# Altium footprint library Deck_PcbLibV3.PcbLib: 12 footprints
Each footprint in its own frame and in the unit in brackets; x right, y up, seen from the top. Pads: shape width x height; smd on the part's side, far side on the other; paste and mask are expansions set on the pad; w line width, h text height; cw(c..) or ccw(c..) is an arc to the next point about the centre after c.
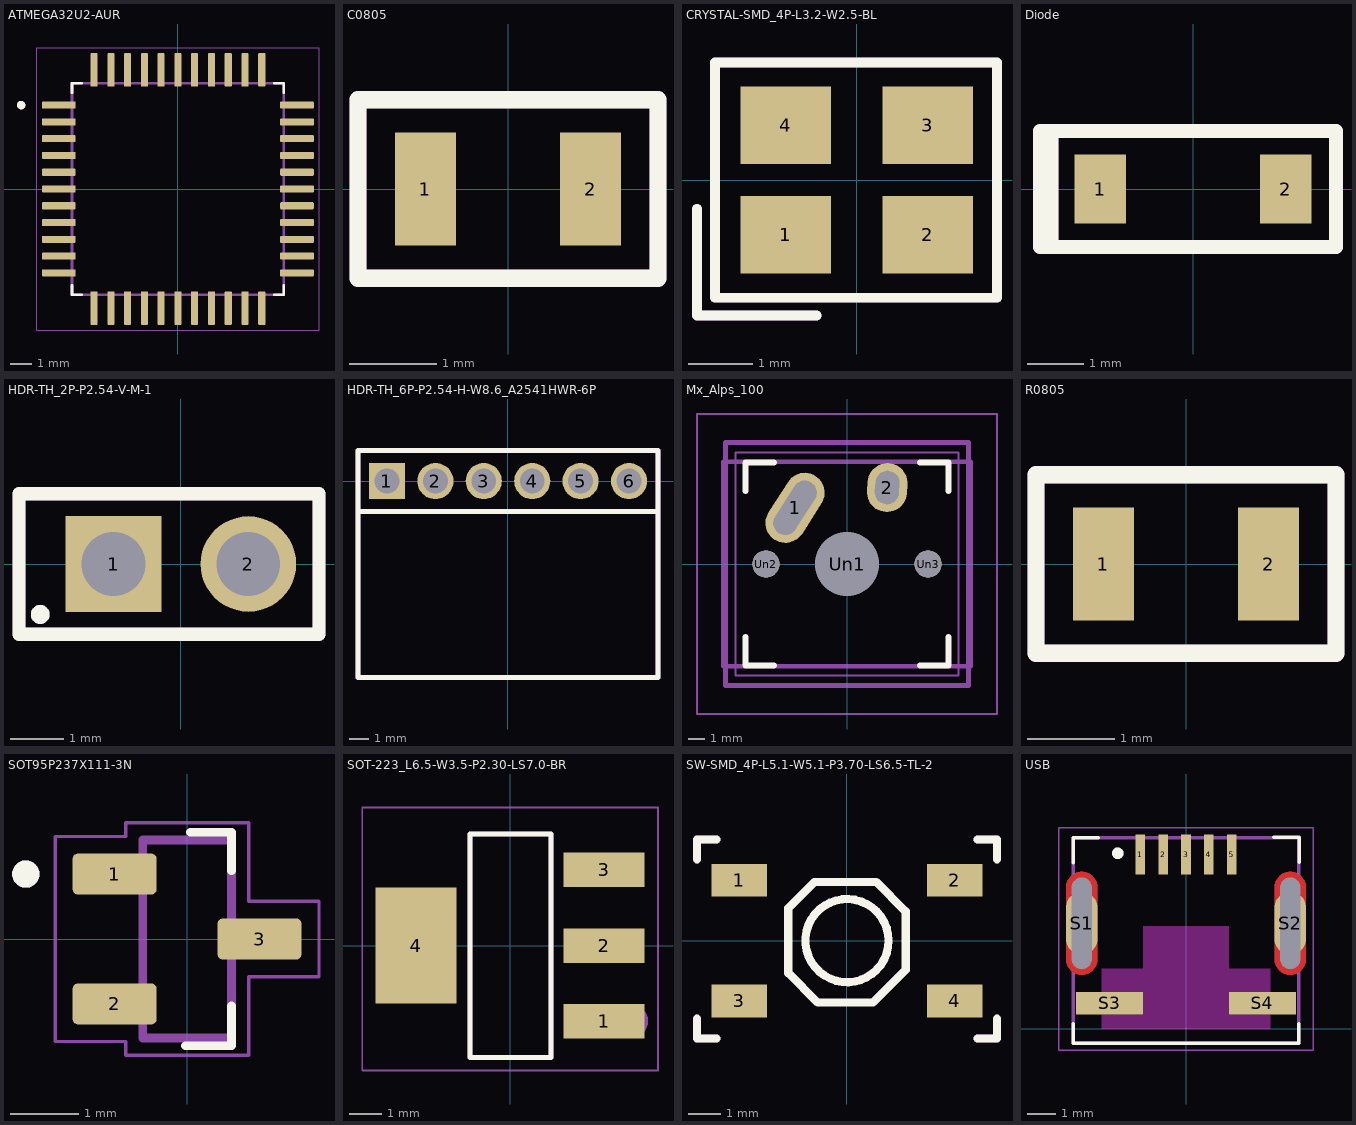
[diagram p0: the footprints below, top view; thin cyan lines are the x and y axes]

## ATMEGA32U2-AUR [mm]
pads (44):
  rrect25% 1.6x0.34 smd: 1(-5.68,4) 2(-5.68,3.2) 3(-5.68,2.4) 4(-5.68,1.6) 5(-5.68,0.8) 6(-5.68,0) 7(-5.68,-0.8) 8(-5.68,-1.6) 9(-5.68,-2.4) 10(-5.68,-3.2) 11(-5.68,-4) 23(5.68,-4) 24(5.68,-3.2) 25(5.68,-2.4) 26(5.68,-1.6) 27(5.68,-0.8) 28(5.68,0) 29(5.68,0.8) 30(5.68,1.6) 31(5.68,2.4) 32(5.68,3.2) 33(5.68,4)
  rrect25% 0.34x1.6 smd: 12(-4,-5.68) 13(-3.2,-5.68) 14(-2.4,-5.68) 15(-1.6,-5.68) 16(-0.8,-5.68) 17(0,-5.68) 18(0.8,-5.68) 19(1.6,-5.68) 20(2.4,-5.68) 21(3.2,-5.68) 22(4,-5.68) 34(4,5.68) 35(3.2,5.68) 36(2.4,5.68) 37(1.6,5.68) 38(0.8,5.68) 39(0,5.68) 40(-0.8,5.68) 41(-1.6,5.68) 42(-2.4,5.68) 43(-3.2,5.68) 44(-4,5.68)
Top Overlay:
  circle w0.2: c-7.48,4 r0.1
  lines w0.127: -5.05,-4.595 -5.05,-5.05 -4.595,-5.05 ; -5.05,4.595 -5.05,5.05 -4.595,5.05 ; 4.595,-5.05 5.05,-5.05 5.05,-4.595 ; 4.595,5.05 5.05,5.05 5.05,4.595
Assembly Notes:
  circle w0.2: c-7.48,4 r0.1
  lines w0.05: -6.73,-6.73 6.73,-6.73 6.73,6.73 -6.73,6.73 -6.73,-6.73
  lines w0.127: -5.05,-5.05 5.05,-5.05 5.05,5.05 -5.05,5.05 -5.05,-5.05
  text "'.Designator'" at 0.1,0.333 h0.7
3D body "ATMEGA32U4-AUR--3DModel-STEP-56544.STEP": height 1.21, standoff 0.01, extent -6,-6 6,6

## C0805 [mm]
pads (2):
  rect 0.7x1.3 smd: 1(-0.95,0) 2(0.95,0)
Top Overlay:
  lines w0.2: -1.725,-1.025 -1.725,1.025 1.725,1.025 1.725,-1.025 -1.725,-1.025
Assembly Notes:
  lines w0.2: -1.725,-1.025 -1.725,1.025 1.725,1.025 1.725,-1.025 -1.725,-1.025
  text "'.Designator'" at -1.297,-0.429 h0.7
3D body "YAG_CC0805_YAG.step": height 1.45, standoff 0, extent -1.105,-0.724 1.105,0.724

## CRYSTAL-SMD_4P-L3.2-W2.5-BL [mm]
pads (4):
  rect 1.4x1.2 smd: 1(-1.1,-0.85) 2(1.1,-0.85) 3(1.1,0.85) 4(-1.1,0.85)
Top Overlay:
  lines w0.152: -2.479,-0.443 -2.479,-0.857 -2.479,-1.686 -2.479,-2.1 -2.014,-2.1 -1.086,-2.1 -0.621,-2.1 ; -2.2,-1.825 2.175,-1.825 2.175,1.825 -2.2,1.825 -2.2,-1.825
Assembly Notes:
  circle w0.36: c-1.143,-0.889 r0.18
  lines w0.152: -2.479,-0.443 -2.479,-0.857 -2.479,-1.686 -2.479,-2.1 -2.014,-2.1 -1.086,-2.1 -0.621,-2.1 ; -2.2,-1.825 -2.2,1.825 2.175,1.825 2.175,-1.825 -2.2,-1.825
  text "'.Designator'" at 0.1,0.333 h0.7

## Diode [mil]
pads (2):
  rect 36x48 smd: 1(-64.5,0) 2(64.5,0)
Top Overlay:
  rectangle: -109.25,-39.37 -93.5,39.37
  lines w10: -106.3,-40.35 -106.3,40.35 99.41,40.35 99.41,-40.35 -106.3,-40.35
Assembly Notes:
  rectangle: -109.25,-39.37 -93.5,39.37
  lines w10: -106.3,-40.35 -106.3,40.35 99.41,40.35 99.41,-40.35 -106.3,-40.35
  text "'.Designator'" at 3.94,13.12 h27.56
3D body "SOD123_DIO.step": height 32.09, standoff 0, extent -75.78,-26.57 75.8,26.58

## HDR-TH_2P-P2.54-V-M-1 [mm]
pads (2):
  rect 1.8x1.8 hole 1.2: 1(-1.27,0)
  round 1.8 hole 1.2: 2(1.27,0)
Top Overlay:
  circle w0.254: c-2.65,-0.95 r0.05
  lines w0.254: -3.05,-1.325 2.6,-1.325 2.6,1.325 -3.05,1.325 -3.05,-1.325
Assembly Notes:
  circle w0.254: c-2.65,-0.95 r0.05
  lines w0.254: -3.05,-1.325 2.6,-1.325 2.6,1.325 -3.05,1.325 -3.05,-1.325
  text "'.Designator'" at 0.1,0.333 h0.7
3D body "2PIN.step": height 8, standoff -3, extent -2.54,-1.3 2.54,1.24

## HDR-TH_6P-P2.54-H-W8.6_A2541HWR-6P [mm]
pads (6):
  rect 1.9x1.9 hole 1.3: 1(-6.35,0)
  round 1.9 hole 1.3: 2(-3.81,0) 3(-1.27,0) 4(1.27,0) 5(3.81,0) 6(6.35,0)
Top Overlay:
  lines w0.254: -7.87,-1.597 -7.87,1.6 7.87,1.6 7.87,-1.597 ; -7.87,-10.3 -7.87,-1.6 7.87,-1.6 7.87,-10.3 -7.87,-10.3
Assembly Notes:
  lines w0.254: -7.87,-1.597 -7.87,1.6 7.87,1.6 7.87,-1.597 ; -7.87,-10.3 -7.87,-1.6 7.87,-1.6 7.87,-10.3 -7.87,-10.3
  text "'.Designator'" at 0.1,0.333 h0.7
3D body "H254_90deg_6pin.STEP": height 2.5, standoff -3.64, extent -7.595,-10.125 7.645,0.226

## Mx_Alps_100 [mm]
pads (5):
  rrect100% 2.5x4.75 hole 3.75 slot 1.5 at 147.5 deg rot 147.5: 1(-3.255,3.52)
  rrect100% 2.5x3.08 hole 2.08 slot 1.5 at 176.1 deg rot 176.1: 2(2.52,4.79)
  round 3.988 hole 3.988: Un1(0,0)
  round 1.702 hole 1.702: Un2(-5.08,0) Un3(5.08,0)
Top Overlay:
  lines w0.381: -6.35,-4.572 -6.35,-6.35 -4.572,-6.35 ; -6.35,4.572 -6.35,6.35 -4.572,6.35 ; 4.572,-6.35 6.35,-6.35 6.35,-4.572 ; 4.572,6.35 6.35,6.35 6.35,4.572
Bottom Overlay:
  lines w0.381: -6.35,-4.572 -6.35,-6.35 -4.572,-6.35 ; -6.35,4.572 -6.35,6.35 -4.572,6.35 ; 4.572,-6.35 6.35,-6.35 6.35,-4.572 ; 4.572,6.35 6.35,6.35 6.35,4.572
Mechanical 2:
  lines w0.152: -9.398,-9.398 9.398,-9.398 9.398,9.398 -9.398,9.398 -9.398,-9.398
  lines w0.3: -7.75,-6.4 -7.75,6.4 7.75,6.4 7.75,-6.4 -7.75,-6.4 ; -7.62,-7.62 7.62,-7.62 7.62,7.62 -7.62,7.62 -7.62,-7.62
Assembly Notes:
  lines w0.152: -6.985,-6.985 6.985,-6.985 6.985,6.985 -6.985,6.985 -6.985,-6.985

## R0805 [mm]
pads (2):
  rect 0.7x1.3 smd: 1(-0.95,0) 2(0.95,0)
Top Overlay:
  lines w0.2: -1.725,-1.025 1.725,-1.025 1.725,1.025 -1.725,1.025 -1.725,-1.025
Assembly Notes:
  lines w0.2: -1.725,-1.025 1.725,-1.025 1.725,1.025 -1.725,1.025 -1.725,-1.025
  text "'.Designator'" at -1.297,-0.429 h0.7
3D body "Res0805-1.STEP": height 0.5, standoff 0, extent -1,-0.625 1,0.625

## SOT95P237X111-3N [mm]
pads (3):
  rrect25% 1.23x0.6 smd: 1(-1.06,0.95) 2(-1.06,-0.95) 3(1.06,0)
Top Overlay:
  circle w0.2: c-2.36,0.95 r0.1
  lines w0.127: -0.025,-1.564 0.65,-1.564 0.65,-0.975 ; 0.05,1.564 0.65,1.564 0.65,1
Assembly Notes:
  circle w0.2: c-2.36,0.95 r0.1
  lines w0.05: -1.93,-1.5 -0.9,-1.5 -0.9,-1.7 0.9,-1.7 0.9,-0.55 1.93,-0.55 1.93,0.55 0.9,0.55 0.9,1.7 -0.9,1.7 -0.9,1.5 -1.93,1.5 -1.93,-1.5
  lines w0.127: -0.65,-1.45 -0.65,1.45 0.65,1.45 0.65,-1.45 -0.65,-1.45
  text "'.Designator'" at 0.1,0.333 h0.7
3D body "step_temp.STEP": height 1.11, standoff 0, extent -1.2,-1.45 1.2,1.45

## SOT-223_L6.5-W3.5-P2.30-LS7.0-BR [mm]
pads (4):
  rect 2.465x1.05 smd: 1(2.857,-2.3) 2(2.857,0) 3(2.857,2.3)
  rect 2.465x3.54 smd: 4(-2.857,0)
Top Overlay:
  lines w0.152: -1.225,-3.401 1.25,-3.401 1.25,3.401 -1.225,3.401 -1.225,-3.401
Assembly Notes:
  circle w0.5: c3.7,-2.3 r0.25
  lines w0.05: -4.5,-3.8 -4.5,4.2 4.5,4.2 4.5,2.2 4.5,-1.8 4.5,-3.8 -4.5,-3.8
  lines w0.152: -1.225,-3.401 1.25,-3.401 1.25,3.401 -1.225,3.401 -1.225,-3.401
  text "'.Designator'" at 0.1,0.333 h0.7
3D body "SOT223_AMS1117-50_ADS.step": height 1.81, standoff 0, extent -3.5,-3.353 3.5,3.353

## SW-SMD_4P-L5.1-W5.1-P3.70-LS6.5-TL-2 [mm]
pads (4):
  rect 1.7x1 smd: 1(-3.3,1.849) 2(3.3,1.85) 3(-3.3,-1.85) 4(3.3,-1.85)
Top Overlay:
  circle w0.254: c0,0 r1.275
  lines w0.254: -4.6,-2.4 -4.6,-3 -4,-3 ; -4.6,2.5 -4.6,3.1 -4,3.1 ; 4,-3 4.6,-3 4.6,-2.4 ; 4,3.1 4.6,3.1 4.6,2.5 ; -1.801,-0.998 -0.899,-1.9 0.8,-1.9 1.801,-0.899 1.801,0.899 0.899,1.801 -1.001,1.801 -1.801,1.001 -1.801,-0.998
Assembly Notes:
  lines w0.254: -4.6,-2.4 -4.6,-3 -4,-3 ; -4.6,2.5 -4.6,3.1 -4,3.1 ; 4,-3 4.6,-3 4.6,-2.4 ; 4,3.1 4.6,3.1 4.6,2.5
  text "'.Designator'" at 0.1,0.333 h0.7
3D body "Tact Switch SMD 4.5x4.5mm.stp": height 3.8, standoff 0, extent -3.75,-2.25 3.75,2.25

## USB [mm]
pads (9):
  rect 0.34x1.4 smd: 1(-1.6,6.1) 2(-0.8,6.1) 3(0,6.1) 4(0.8,6.1) 5(1.6,6.1)
  oval 1.1x2.2 hole 0.7 slot 3.2 at 90 deg: S1(-3.65,3.7) S2(3.65,3.7)
  rect 2.35x0.8 smd: S3(-2.675,0.9) S4(2.675,0.9)
Top Layer:
  region: -3.621,5.499 -3.593,5.497 -3.564,5.493 -3.536,5.488 -3.508,5.481 -3.48,5.473 -3.453,5.463 -3.426,5.452 -3.4,5.44 -3.375,5.426 -3.35,5.411 -3.327,5.395 -3.304,5.377 -3.282,5.359 -3.261,5.339 -3.241,5.318 -3.223,5.296 -3.205,5.273 -3.189,5.25 -3.174,5.225 -3.16,5.2 -3.148,5.174 -3.137,5.147 -3.127,5.12 -3.119,5.092 -3.112,5.064 -3.107,5.036 -3.103,5.007 -3.101,4.979 -3.1,4.95 -3.1,2.45 -3.101,2.421 -3.103,2.393 -3.107,2.364 -3.112,2.336 -3.119,2.308 -3.127,2.28 -3.137,2.253 -3.148,2.226 -3.16,2.2 -3.174,2.175 -3.189,2.15 -3.205,2.127 -3.223,2.104 -3.241,2.082 -3.261,2.061 -3.282,2.041 -3.304,2.023 -3.327,2.005 -3.35,1.989 -3.375,1.974 -3.4,1.96 -3.426,1.948 -3.453,1.937 -3.48,1.927 -3.508,1.919 -3.536,1.912 -3.564,1.907 -3.593,1.903 -3.621,1.901 -3.65,1.9 -3.679,1.901 -3.707,1.903 -3.736,1.907 -3.764,1.912 -3.792,1.919 -3.82,1.927 -3.847,1.937 -3.874,1.948 -3.9,1.96 -3.925,1.974 -3.95,1.989 -3.973,2.005 -3.996,2.023 -4.018,2.041 -4.039,2.061 -4.059,2.082 -4.077,2.104 -4.095,2.127 -4.111,2.15 -4.126,2.175 -4.14,2.2 -4.152,2.226 -4.163,2.253 -4.173,2.28 -4.181,2.308 -4.188,2.336 -4.193,2.364 -4.197,2.393 -4.199,2.421 -4.2,2.45 -4.2,4.95 -4.199,4.979 -4.197,5.007 -4.193,5.036 -4.188,5.064 -4.181,5.092 -4.173,5.12 -4.163,5.147 -4.152,5.174 -4.14,5.2 -4.126,5.225 -4.111,5.25 -4.095,5.273 -4.077,5.296 -4.059,5.318 -4.039,5.339 -4.018,5.359 -3.996,5.377 -3.973,5.395 -3.95,5.411 -3.925,5.426 -3.9,5.44 -3.874,5.452 -3.847,5.463 -3.82,5.473 -3.792,5.481 -3.764,5.488 -3.736,5.493 -3.707,5.497 -3.679,5.499 -3.65,5.5
  region: 3.679,5.499 3.707,5.497 3.736,5.493 3.764,5.488 3.792,5.481 3.82,5.473 3.847,5.463 3.874,5.452 3.9,5.44 3.925,5.426 3.95,5.411 3.973,5.395 3.996,5.377 4.018,5.359 4.039,5.339 4.059,5.318 4.077,5.296 4.095,5.273 4.111,5.25 4.126,5.225 4.14,5.2 4.152,5.174 4.163,5.147 4.173,5.12 4.181,5.092 4.188,5.064 4.193,5.036 4.197,5.007 4.199,4.979 4.2,4.95 4.2,2.45 4.199,2.421 4.197,2.393 4.193,2.364 4.188,2.336 4.181,2.308 4.173,2.28 4.163,2.253 4.152,2.226 4.14,2.2 4.126,2.175 4.111,2.15 4.095,2.127 4.077,2.104 4.059,2.082 4.039,2.061 4.018,2.041 3.996,2.023 3.973,2.005 3.95,1.989 3.925,1.974 3.9,1.96 3.874,1.948 3.847,1.937 3.82,1.927 3.792,1.919 3.764,1.912 3.736,1.907 3.707,1.903 3.679,1.901 3.65,1.9 3.621,1.901 3.593,1.903 3.564,1.907 3.536,1.912 3.508,1.919 3.48,1.927 3.453,1.937 3.426,1.948 3.4,1.96 3.375,1.974 3.35,1.989 3.327,2.005 3.304,2.023 3.282,2.041 3.261,2.061 3.241,2.082 3.223,2.104 3.205,2.127 3.189,2.15 3.174,2.175 3.16,2.2 3.148,2.226 3.137,2.253 3.127,2.28 3.119,2.308 3.112,2.336 3.107,2.364 3.103,2.393 3.101,2.421 3.1,2.45 3.1,4.95 3.101,4.979 3.103,5.007 3.107,5.036 3.112,5.064 3.119,5.092 3.127,5.12 3.137,5.147 3.148,5.174 3.16,5.2 3.174,5.225 3.189,5.25 3.205,5.273 3.223,5.296 3.241,5.318 3.261,5.339 3.282,5.359 3.304,5.377 3.327,5.395 3.35,5.411 3.375,5.426 3.4,5.44 3.426,5.452 3.453,5.463 3.48,5.473 3.508,5.481 3.536,5.488 3.564,5.493 3.593,5.497 3.621,5.499 3.65,5.5
Bottom Layer:
  region: 3.679,5.499 3.707,5.497 3.736,5.493 3.764,5.488 3.792,5.481 3.82,5.473 3.847,5.463 3.874,5.452 3.9,5.44 3.925,5.426 3.95,5.411 3.973,5.395 3.996,5.377 4.018,5.359 4.039,5.339 4.059,5.318 4.077,5.296 4.095,5.273 4.111,5.25 4.126,5.225 4.14,5.2 4.152,5.174 4.163,5.147 4.173,5.12 4.181,5.092 4.188,5.064 4.193,5.036 4.197,5.007 4.199,4.979 4.2,4.95 4.2,2.45 4.199,2.421 4.197,2.393 4.193,2.364 4.188,2.336 4.181,2.308 4.173,2.28 4.163,2.253 4.152,2.226 4.14,2.2 4.126,2.175 4.111,2.15 4.095,2.127 4.077,2.104 4.059,2.082 4.039,2.061 4.018,2.041 3.996,2.023 3.973,2.005 3.95,1.989 3.925,1.974 3.9,1.96 3.874,1.948 3.847,1.937 3.82,1.927 3.792,1.919 3.764,1.912 3.736,1.907 3.707,1.903 3.679,1.901 3.65,1.9 3.621,1.901 3.593,1.903 3.564,1.907 3.536,1.912 3.508,1.919 3.48,1.927 3.453,1.937 3.426,1.948 3.4,1.96 3.375,1.974 3.35,1.989 3.327,2.005 3.304,2.023 3.282,2.041 3.261,2.061 3.241,2.082 3.223,2.104 3.205,2.127 3.189,2.15 3.174,2.175 3.16,2.2 3.148,2.226 3.137,2.253 3.127,2.28 3.119,2.308 3.112,2.336 3.107,2.364 3.103,2.393 3.101,2.421 3.1,2.45 3.1,4.95 3.101,4.979 3.103,5.007 3.107,5.036 3.112,5.064 3.119,5.092 3.127,5.12 3.137,5.147 3.148,5.174 3.16,5.2 3.174,5.225 3.189,5.25 3.205,5.273 3.223,5.296 3.241,5.318 3.261,5.339 3.282,5.359 3.304,5.377 3.327,5.395 3.35,5.411 3.375,5.426 3.4,5.44 3.426,5.452 3.453,5.463 3.48,5.473 3.508,5.481 3.536,5.488 3.564,5.493 3.593,5.497 3.621,5.499 3.65,5.5
  region: -3.621,5.499 -3.593,5.497 -3.564,5.493 -3.536,5.488 -3.508,5.481 -3.48,5.473 -3.453,5.463 -3.426,5.452 -3.4,5.44 -3.375,5.426 -3.35,5.411 -3.327,5.395 -3.304,5.377 -3.282,5.359 -3.261,5.339 -3.241,5.318 -3.223,5.296 -3.205,5.273 -3.189,5.25 -3.174,5.225 -3.16,5.2 -3.148,5.174 -3.137,5.147 -3.127,5.12 -3.119,5.092 -3.112,5.064 -3.107,5.036 -3.103,5.007 -3.101,4.979 -3.1,4.95 -3.1,2.45 -3.101,2.421 -3.103,2.393 -3.107,2.364 -3.112,2.336 -3.119,2.308 -3.127,2.28 -3.137,2.253 -3.148,2.226 -3.16,2.2 -3.174,2.175 -3.189,2.15 -3.205,2.127 -3.223,2.104 -3.241,2.082 -3.261,2.061 -3.282,2.041 -3.304,2.023 -3.327,2.005 -3.35,1.989 -3.375,1.974 -3.4,1.96 -3.426,1.948 -3.453,1.937 -3.48,1.927 -3.508,1.919 -3.536,1.912 -3.564,1.907 -3.593,1.903 -3.621,1.901 -3.65,1.9 -3.679,1.901 -3.707,1.903 -3.736,1.907 -3.764,1.912 -3.792,1.919 -3.82,1.927 -3.847,1.937 -3.874,1.948 -3.9,1.96 -3.925,1.974 -3.95,1.989 -3.973,2.005 -3.996,2.023 -4.018,2.041 -4.039,2.061 -4.059,2.082 -4.077,2.104 -4.095,2.127 -4.111,2.15 -4.126,2.175 -4.14,2.2 -4.152,2.226 -4.163,2.253 -4.173,2.28 -4.181,2.308 -4.188,2.336 -4.193,2.364 -4.197,2.393 -4.199,2.421 -4.2,2.45 -4.2,4.95 -4.199,4.979 -4.197,5.007 -4.193,5.036 -4.188,5.064 -4.181,5.092 -4.173,5.12 -4.163,5.147 -4.152,5.174 -4.14,5.2 -4.126,5.225 -4.111,5.25 -4.095,5.273 -4.077,5.296 -4.059,5.318 -4.039,5.339 -4.018,5.359 -3.996,5.377 -3.973,5.395 -3.95,5.411 -3.925,5.426 -3.9,5.44 -3.874,5.452 -3.847,5.463 -3.82,5.473 -3.792,5.481 -3.764,5.488 -3.736,5.493 -3.707,5.497 -3.679,5.499 -3.65,5.5
Top Overlay:
  circle w0.2: c-2.39,6.15 r0.1
  lines w0.127: -3.95,0.18 -3.95,-0.5 3.95,-0.5 3.95,0.18 ; -3.95,5.82 -3.95,6.7 -3.07,6.7 ; 3.08,6.71 3.96,6.71 3.96,5.83
Top Solder:
  drawing of 2 lines, arcs and shapes, not listed
Bottom Solder:
  drawing of 2 lines, arcs and shapes, not listed
Keep-Out Layer:
  region: 1.5,2.1 2.95,2.1 2.95,1.3 1.5,1.3 1.5,0.5 2.95,0.5 2.95,0 -2.95,0 -2.95,0.5 -1.5,0.5 -1.5,1.3 -2.95,1.3 -2.95,2.1 -1.5,2.1 -1.5,3.6 1.5,3.6
Assembly Notes:
  circle w0.2: c-2.39,6.15 r0.1
  lines w0.05: -4.45,-0.75 4.45,-0.75 4.45,7.05 -4.45,7.05 -4.45,-0.75
  lines w0.127: -3.95,-0.5 3.95,-0.5 3.95,6.7 -3.95,6.7 -3.95,-0.5
  text "'.Designator'" at 0.1,0.333 h0.7
3D body "USB.stp": height 3.94, standoff -0.76, extent -3.85,-0.381 3.85,6.619